# Altium integrated library Capacitors - Aluminum - Electrolytic SMT.IntLib: 1988 symbols (part 23 of 50)
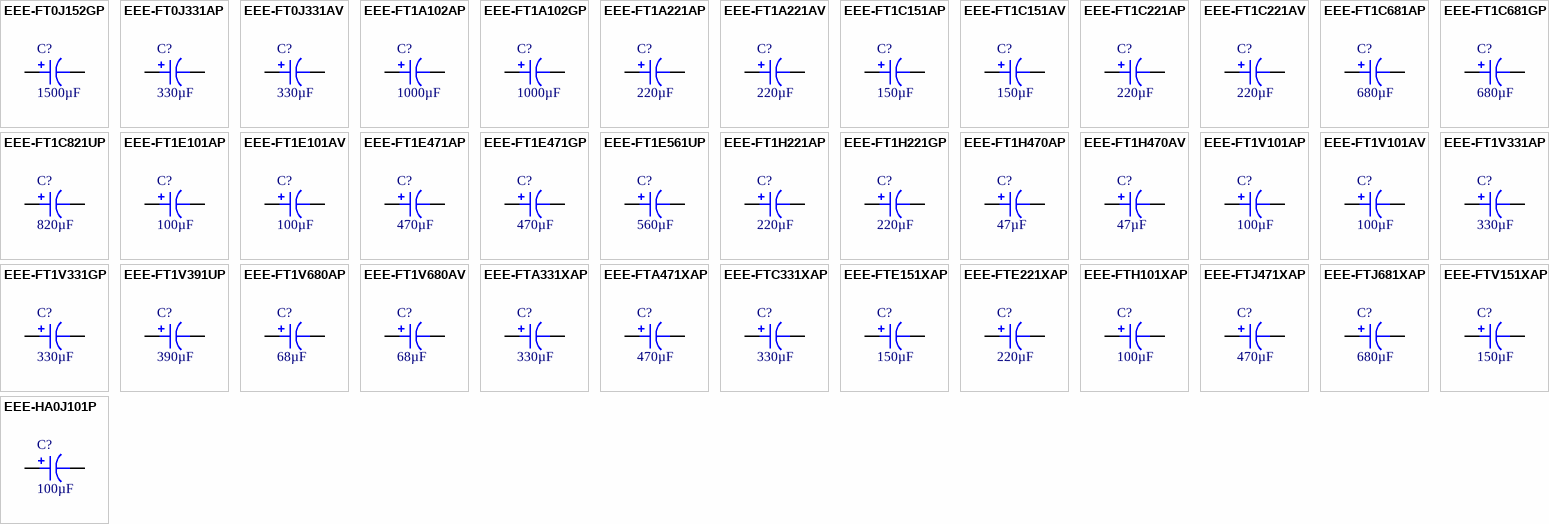
[diagram p70: symbols EEE-FT0J152GP to EEE-HA0J101P]

## EEE-FTJ471XAP
designator C?, comment 470µF
CAP ALUM 470UF 20% 6.3V SMD; Part Number: EEE-FTJ471XAP; Manufacturer: Panasonic Electronic Components; ESR (Equivalent Series Resistance): 160 mohm @ 100kHz; Lifetime @ Temp.: 2000 Hrs @ 105°C; Polarization: Polar; Ripple Current @ High Frequency: 600mA @ 100kHz; Ripple Current @ Low Frequency: 390mA @ 120Hz; Surface Mount Land Size: 0.260" L x 0.260" W (6.60mm x 6.60mm); Applications: Automotive; Capacitance: 470µF; ComponentLink1Description: Datasheet; ComponentLink1URL: https://na.industrial.panasonic.com/file-download/3112; ComponentLink2Description: DigiKey Link; ComponentLink2URL: http://digikey.com/product-detail/en/panasonic-electronic-components/EEE-FTJ471XAP/P15096CT-ND/2796920; Device Package: Radial, Can - SMD; Height - Seated (Max): 0.315" (8.00mm); LastUpdated: 9/2/2020 1:25:38 AM; Lifecycle Status: Active; Minimum Order: 1; Mounting Type: Surface Mount; Operating Temperature: -55°C ~ 105°C; Package / Case: Radial, Can - SMD; Packaging: TapeAndReel; PartId: 8439; Part Status: Active; Price: 0.24; Ratings: AEC-Q200; Series: FT; Size / Dimension: 0.248" Dia (6.30mm); Supplier 1: DigiKey; Supplier Part Number 1: P15096CT-ND; Tolerance: ±20%; Value: 470µF; Voltage - Rated: 6.3V
footprint CAP ALSMD 6.6MM H8.0MM
pins: 1, 2

## EEE-FTJ681XAP
designator C?, comment 680µF
CAP ALUM 680UF 20% 6.3V SMD; Part Number: EEE-FTJ681XAP; Manufacturer: Panasonic Electronic Components; ESR (Equivalent Series Resistance): 160 mohm @ 100kHz; Lifetime @ Temp.: 2000 Hrs @ 105°C; Polarization: Polar; Ripple Current @ High Frequency: 600mA @ 100kHz; Ripple Current @ Low Frequency: 420mA @ 120Hz; Surface Mount Land Size: 0.260" L x 0.260" W (6.60mm x 6.60mm); Applications: Automotive; Capacitance: 680µF; ComponentLink1Description: Datasheet; ComponentLink1URL: https://na.industrial.panasonic.com/file-download/3112; ComponentLink2Description: DigiKey Link; ComponentLink2URL: http://digikey.com/product-detail/en/panasonic-electronic-components/EEE-FTJ681XAP/P15097CT-ND/2796925; Device Package: Radial, Can - SMD; Height - Seated (Max): 0.315" (8.00mm); LastUpdated: 9/2/2020 1:25:38 AM; Lifecycle Status: Active; Minimum Order: 1; Mounting Type: Surface Mount; Operating Temperature: -55°C ~ 105°C; Package / Case: Radial, Can - SMD; Packaging: TapeAndReel; PartId: 8438; Part Status: Active; Price: 0.24; Ratings: AEC-Q200; Series: FT; Size / Dimension: 0.248" Dia (6.30mm); Supplier 1: DigiKey; Supplier Part Number 1: P15097CT-ND; Tolerance: ±20%; Value: 680µF; Voltage - Rated: 6.3V
footprint CAP ALSMD 6.6MM H8.0MM
pins: 1, 2

## EEE-FTV151XAP
designator C?, comment 150µF
CAP ALUM 150UF 20% 35V SMD; Part Number: EEE-FTV151XAP; Manufacturer: Panasonic Electronic Components; ESR (Equivalent Series Resistance): 160 mohm @ 100kHz; Lifetime @ Temp.: 2000 Hrs @ 105°C; Polarization: Polar; Ripple Current @ High Frequency: 600mA @ 100kHz; Ripple Current @ Low Frequency: 390mA @ 120Hz; Surface Mount Land Size: 0.260" L x 0.260" W (6.60mm x 6.60mm); Applications: Automotive; Capacitance: 150µF; ComponentLink1Description: Datasheet; ComponentLink1URL: https://na.industrial.panasonic.com/file-download/3112; ComponentLink2Description: DigiKey Link; ComponentLink2URL: http://digikey.com/product-detail/en/panasonic-electronic-components/EEE-FTV151XAP/PCE5017CT-ND/2652072; Device Package: Radial, Can - SMD; Height - Seated (Max): 0.315" (8.00mm); LastUpdated: 9/2/2020 1:25:38 AM; Lifecycle Status: Active; Minimum Order: 1; Mounting Type: Surface Mount; Operating Temperature: -55°C ~ 105°C; Package / Case: Radial, Can - SMD; Packaging: TapeAndReel; PartId: 8375; Part Status: Active; Price: 0.24; Ratings: AEC-Q200; Series: FT; Size / Dimension: 0.248" Dia (6.30mm); Supplier 1: DigiKey; Supplier Part Number 1: PCE5017CT-ND; Tolerance: ±20%; Value: 150µF; Voltage - Rated: 35V
footprint CAP ALSMD 6.6MM H8.0MM
pins: 1, 2

## EEE-HA0J101P
designator C?, comment 100µF
CAP ALUM 100UF 20% 6.3V SMD; Part Number: EEE-HA0J101P; Manufacturer: Panasonic Electronic Components; Lifetime @ Temp.: 1000 Hrs @ 105°C; Polarization: Polar; Ripple Current @ High Frequency: 120.7mA @ 10kHz; Ripple Current @ Low Frequency: 71mA @ 120Hz; Surface Mount Land Size: 0.260" L x 0.260" W (6.60mm x 6.60mm); Applications: Automotive; Capacitance: 100µF; ComponentLink1Description: Datasheet; ComponentLink1URL: https://industrial.panasonic.com/cdbs/www-data/pdf/RDE0000/ABA0000C1151.pdf; ComponentLink2Description: DigiKey Link; ComponentLink2URL: http://digikey.com/product-detail/en/panasonic-electronic-components/EEE-HA0J101P/PCE4155CT-ND/814228; Device Package: Radial, Can - SMD; Height - Seated (Max): 0.213" (5.40mm); LastUpdated: 9/2/2020 1:18:33 AM; Lifecycle Status: Active; Minimum Order: 1; Mounting Type: Surface Mount; Operating Temperature: -40°C ~ 105°C; Package / Case: Radial, Can - SMD; Packaging: TapeAndReel; PartId: 8764; Part Status: Active; Price: 0.09; Ratings: AEC-Q200; Series: HA; Size / Dimension: 0.248" Dia (6.30mm); Supplier 1: DigiKey; Supplier Part Number 1: PCE4155CT-ND; Tolerance: ±20%; Value: 100µF; Voltage - Rated: 6.3V
footprint CAP ALSMD 6.6MM H5.4MM
pins: 1, 2

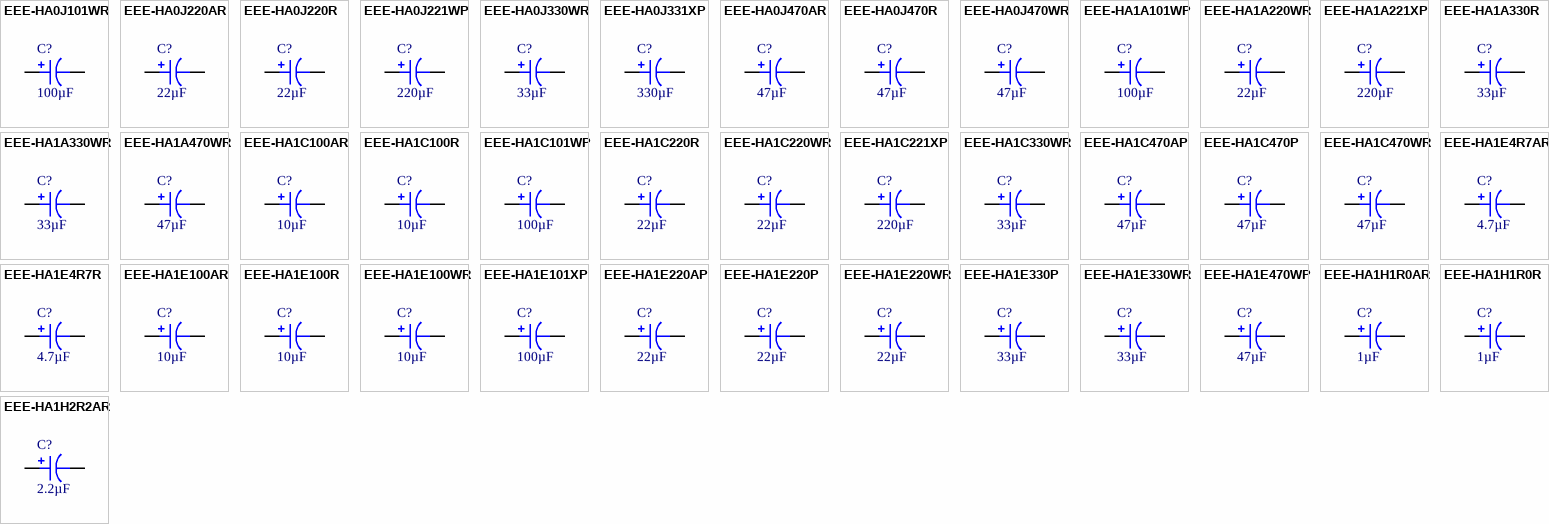
[diagram p22: symbols EEE-HA0J101WR to EEE-HA1H2R2AR]

## EEE-HA0J101WR
designator C?, comment 100µF
CAP ALUM 100UF 20% 6.3V SMD; Part Number: EEE-HA0J101WR; Manufacturer: Panasonic Electronic Components; Lifetime @ Temp.: 1000 Hrs @ 105°C; Polarization: Polar; Ripple Current @ High Frequency: 79.9mA @ 10kHz; Ripple Current @ Low Frequency: 47mA @ 120Hz; Surface Mount Land Size: 0.209" L x 0.209" W (5.30mm x 5.30mm); Applications: Automotive; Capacitance: 100µF; ComponentLink1Description: Datasheet; ComponentLink1URL: https://industrial.panasonic.com/cdbs/www-data/pdf/RDE0000/ABA0000C1151.pdf; ComponentLink2Description: DigiKey Link; ComponentLink2URL: http://digikey.com/product-detail/en/panasonic-electronic-components/EEE-HA0J101WR/PCE4156CT-ND/814229; Device Package: Radial, Can - SMD; Height - Seated (Max): 0.213" (5.40mm); LastUpdated: 9/2/2020 1:25:23 AM; Lifecycle Status: Active; Minimum Order: 1; Mounting Type: Surface Mount; Operating Temperature: -40°C ~ 105°C; Package / Case: Radial, Can - SMD; Packaging: TapeAndReel; PartId: 7976; Part Status: Active; Price: 0.08; Ratings: AEC-Q200; Series: HA; Size / Dimension: 0.197" Dia (5.00mm); Supplier 1: DigiKey; Supplier Part Number 1: PCE4156CT-ND; Tolerance: ±20%; Value: 100µF; Voltage - Rated: 6.3V
footprint CAP ALSMD 5.3MM H5.4MM
pins: 1, 2

## EEE-HA0J220AR
designator C?, comment 22µF
CAP ALUM 22UF 20% 6.3V SMD; Part Number: EEE-HA0J220AR; Manufacturer: Panasonic Electronic Components; Lifetime @ Temp.: 1000 Hrs @ 105°C; Polarization: Polar; Ripple Current @ High Frequency: 49.3mA @ 10kHz; Ripple Current @ Low Frequency: 29mA @ 120Hz; Surface Mount Land Size: 0.169" L x 0.169" W (4.30mm x 4.30mm); Applications: Automotive; Capacitance: 22µF; ComponentLink1Description: Datasheet; ComponentLink1URL: https://industrial.panasonic.com/cdbs/www-data/pdf/RDE0000/ABA0000C1148.pdf; ComponentLink2Description: DigiKey Link; ComponentLink2URL: http://digikey.com/product-detail/en/panasonic-electronic-components/EEE-HA0J220AR/PCE4647CT-ND/1718070; Device Package: Radial, Can - SMD; Height - Seated (Max): 0.213" (5.40mm); LastUpdated: 9/2/2020 1:23:43 AM; Lifecycle Status: Active; Minimum Order: 1; Mounting Type: Surface Mount; Operating Temperature: -40°C ~ 105°C; Package / Case: Radial, Can - SMD; Packaging: TapeAndReel; PartId: 7163; Part Status: Active; Price: 0.08; Ratings: AEC-Q200; Series: HA; Size / Dimension: 0.157" Dia (4.00mm); Supplier 1: DigiKey; Supplier Part Number 1: PCE4647CT-ND; Tolerance: ±20%; Value: 22µF; Voltage - Rated: 6.3V
footprint CAP ALSMD POLY 4.3MM H5.5MM
pins: 1, 2

## EEE-HA0J220R
designator C?, comment 22µF
CAP ALUM 22UF 20% 6.3V SMD; Part Number: EEE-HA0J220R; Manufacturer: Panasonic Electronic Components; Lifetime @ Temp.: 1000 Hrs @ 105°C; Polarization: Polar; Ripple Current @ High Frequency: 49.3mA @ 10kHz; Ripple Current @ Low Frequency: 29mA @ 120Hz; Surface Mount Land Size: 0.169" L x 0.169" W (4.30mm x 4.30mm); Applications: Automotive; Capacitance: 22µF; ComponentLink1Description: Datasheet; ComponentLink1URL: https://industrial.panasonic.com/cdbs/www-data/pdf/RDE0000/ABA0000C1151.pdf; ComponentLink2Description: DigiKey Link; ComponentLink2URL: http://digikey.com/product-detail/en/panasonic-electronic-components/EEE-HA0J220R/PCE4160CT-ND/814233; Device Package: Radial, Can - SMD; Height - Seated (Max): 0.213" (5.40mm); LastUpdated: 9/2/2020 1:23:43 AM; Lifecycle Status: Active; Minimum Order: 1; Mounting Type: Surface Mount; Operating Temperature: -40°C ~ 105°C; Package / Case: Radial, Can - SMD; Packaging: TapeAndReel; PartId: 7150; Part Status: Active; Price: 0.07; Ratings: AEC-Q200; Series: HA; Size / Dimension: 0.157" Dia (4.00mm); Supplier 1: DigiKey; Supplier Part Number 1: PCE4160CT-ND; Tolerance: ±20%; Value: 22µF; Voltage - Rated: 6.3V
footprint CAP ALSMD POLY 4.3MM H5.5MM
pins: 1, 2

## EEE-HA0J221WP
designator C?, comment 220µF
CAP ALUM 220UF 20% 6.3V SMD; Part Number: EEE-HA0J221WP; Manufacturer: Panasonic Electronic Components; Lifetime @ Temp.: 1000 Hrs @ 105°C; Polarization: Polar; Ripple Current @ High Frequency: 125.8mA @ 10kHz; Ripple Current @ Low Frequency: 74mA @ 120Hz; Surface Mount Land Size: 0.260" L x 0.260" W (6.60mm x 6.60mm); Applications: Automotive; Capacitance: 220µF; ComponentLink1Description: Datasheet; ComponentLink1URL: https://industrial.panasonic.com/cdbs/www-data/pdf/RDE0000/ABA0000C1151.pdf; ComponentLink2Description: DigiKey Link; ComponentLink2URL: http://digikey.com/product-detail/en/panasonic-electronic-components/EEE-HA0J221WP/PCE4161CT-ND/814234; Device Package: Radial, Can - SMD; Height - Seated (Max): 0.213" (5.40mm); LastUpdated: 9/2/2020 1:18:32 AM; Lifecycle Status: Active; Minimum Order: 1; Mounting Type: Surface Mount; Operating Temperature: -40°C ~ 105°C; Package / Case: Radial, Can - SMD; Packaging: TapeAndReel; PartId: 8671; Part Status: Active; Price: 0.09; Ratings: AEC-Q200; Series: HA; Size / Dimension: 0.248" Dia (6.30mm); Supplier 1: DigiKey; Supplier Part Number 1: PCE4161CT-ND; Tolerance: ±20%; Value: 220µF; Voltage - Rated: 6.3V
footprint CAP ALSMD 6.6MM H5.4MM
pins: 1, 2

## EEE-HA0J330WR
designator C?, comment 33µF
CAP ALUM 33UF 20% 6.3V SMD; Part Number: EEE-HA0J330WR; Manufacturer: Panasonic Electronic Components; Lifetime @ Temp.: 1000 Hrs @ 105°C; Polarization: Polar; Ripple Current @ High Frequency: 49.3mA @ 10kHz; Ripple Current @ Low Frequency: 29mA @ 120Hz; Surface Mount Land Size: 0.169" L x 0.169" W (4.30mm x 4.30mm); Applications: Automotive; Capacitance: 33µF; ComponentLink1Description: Datasheet; ComponentLink1URL: https://industrial.panasonic.com/cdbs/www-data/pdf/RDE0000/ABA0000C1151.pdf; ComponentLink2Description: DigiKey Link; ComponentLink2URL: http://digikey.com/product-detail/en/panasonic-electronic-components/EEE-HA0J330WR/PCE4162CT-ND/814235; Device Package: Radial, Can - SMD; Height - Seated (Max): 0.213" (5.40mm); LastUpdated: 9/2/2020 1:23:46 AM; Lifecycle Status: Active; Minimum Order: 1; Mounting Type: Surface Mount; Operating Temperature: -40°C ~ 105°C; Package / Case: Radial, Can - SMD; Packaging: TapeAndReel; PartId: 7061; Part Status: Active; Price: 0.08; Ratings: AEC-Q200; Series: HA; Size / Dimension: 0.157" Dia (4.00mm); Supplier 1: DigiKey; Supplier Part Number 1: PCE4162CT-ND; Tolerance: ±20%; Value: 33µF; Voltage - Rated: 6.3V
footprint CAP ALSMD POLY 4.3MM H5.5MM
pins: 1, 2

## EEE-HA0J331XP
designator C?, comment 330µF
CAP ALUM 330UF 20% 6.3V SMD; Part Number: EEE-HA0J331XP; Manufacturer: Panasonic Electronic Components; Lifetime @ Temp.: 1000 Hrs @ 105°C; Polarization: Polar; Ripple Current @ High Frequency: 178.5mA @ 10kHz; Ripple Current @ Low Frequency: 105mA @ 120Hz; Surface Mount Land Size: 0.260" L x 0.260" W (6.60mm x 6.60mm); Applications: Automotive; Capacitance: 330µF; ComponentLink1Description: Datasheet; ComponentLink1URL: https://industrial.panasonic.com/cdbs/www-data/pdf/RDE0000/ABA0000C1151.pdf; ComponentLink2Description: DigiKey Link; ComponentLink2URL: http://digikey.com/product-detail/en/panasonic-electronic-components/EEE-HA0J331XP/PCE4164CT-ND/814237; Device Package: Radial, Can - SMD; Height - Seated (Max): 0.303" (7.70mm); LastUpdated: 9/2/2020 1:25:34 AM; Lifecycle Status: Active; Minimum Order: 1; Mounting Type: Surface Mount; Operating Temperature: -40°C ~ 105°C; Package / Case: Radial, Can - SMD; Packaging: TapeAndReel; PartId: 8258; Part Status: Active; Price: 0.13; Ratings: AEC-Q200; Series: HA; Size / Dimension: 0.248" Dia (6.30mm); Supplier 1: DigiKey; Supplier Part Number 1: PCE4164CT-ND; Tolerance: ±20%; Value: 330µF; Voltage - Rated: 6.3V
footprint CAP ALSMD 6.6MM H7.7MM
pins: 1, 2

## EEE-HA0J470AR
designator C?, comment 47µF
CAP ALUM 47UF 20% 6.3V SMD; Part Number: EEE-HA0J470AR; Manufacturer: Panasonic Electronic Components; Lifetime @ Temp.: 1000 Hrs @ 105°C; Polarization: Polar; Ripple Current @ High Frequency: 78.2mA @ 10kHz; Ripple Current @ Low Frequency: 46mA @ 120Hz; Surface Mount Land Size: 0.209" L x 0.209" W (5.30mm x 5.30mm); Applications: Automotive; Capacitance: 47µF; ComponentLink1Description: Datasheet; ComponentLink1URL: https://industrial.panasonic.com/cdbs/www-data/pdf/RDE0000/ABA0000C1148.pdf; ComponentLink2Description: DigiKey Link; ComponentLink2URL: http://digikey.com/product-detail/en/panasonic-electronic-components/EEE-HA0J470AR/PCE4649CT-ND/1718072; Device Package: Radial, Can - SMD; Height - Seated (Max): 0.213" (5.40mm); LastUpdated: 9/2/2020 1:25:22 AM; Lifecycle Status: Active; Minimum Order: 1; Mounting Type: Surface Mount; Operating Temperature: -40°C ~ 105°C; Package / Case: Radial, Can - SMD; Packaging: TapeAndReel; PartId: 8000; Part Status: Active; Price: 0.09; Ratings: AEC-Q200; Series: HA; Size / Dimension: 0.197" Dia (5.00mm); Supplier 1: DigiKey; Supplier Part Number 1: PCE4649CT-ND; Tolerance: ±20%; Value: 47µF; Voltage - Rated: 6.3V
footprint CAP ALSMD 5.3MM H5.4MM
pins: 1, 2

## EEE-HA0J470R
designator C?, comment 47µF
CAP ALUM 47UF 20% 6.3V SMD; Part Number: EEE-HA0J470R; Manufacturer: Panasonic Electronic Components; Lifetime @ Temp.: 1000 Hrs @ 105°C; Polarization: Polar; Ripple Current @ High Frequency: 78.2mA @ 10kHz; Ripple Current @ Low Frequency: 46mA @ 120Hz; Surface Mount Land Size: 0.209" L x 0.209" W (5.30mm x 5.30mm); Applications: Automotive; Capacitance: 47µF; ComponentLink1Description: Datasheet; ComponentLink1URL: https://industrial.panasonic.com/cdbs/www-data/pdf/RDE0000/ABA0000C1151.pdf; ComponentLink2Description: DigiKey Link; ComponentLink2URL: http://digikey.com/product-detail/en/panasonic-electronic-components/EEE-HA0J470R/PCE4165CT-ND/814238; Device Package: Radial, Can - SMD; Height - Seated (Max): 0.213" (5.40mm); LastUpdated: 9/2/2020 1:25:22 AM; Lifecycle Status: Active; Minimum Order: 1; Mounting Type: Surface Mount; Operating Temperature: -40°C ~ 105°C; Package / Case: Radial, Can - SMD; Packaging: TapeAndReel; PartId: 8012; Part Status: Active; Price: 0.08; Ratings: AEC-Q200; Series: HA; Size / Dimension: 0.197" Dia (5.00mm); Supplier 1: DigiKey; Supplier Part Number 1: PCE4165CT-ND; Tolerance: ±20%; Value: 47µF; Voltage - Rated: 6.3V
footprint CAP ALSMD 5.3MM H5.4MM
pins: 1, 2

## EEE-HA0J470WR
designator C?, comment 47µF
CAP ALUM 47UF 20% 6.3V SMD; Part Number: EEE-HA0J470WR; Manufacturer: Panasonic Electronic Components; Lifetime @ Temp.: 1000 Hrs @ 105°C; Polarization: Polar; Ripple Current @ High Frequency: 61.2mA @ 10kHz; Ripple Current @ Low Frequency: 36mA @ 120Hz; Surface Mount Land Size: 0.169" L x 0.169" W (4.30mm x 4.30mm); Applications: Automotive; Capacitance: 47µF; ComponentLink1Description: Datasheet; ComponentLink1URL: https://industrial.panasonic.com/cdbs/www-data/pdf/RDE0000/ABA0000C1151.pdf; ComponentLink2Description: DigiKey Link; ComponentLink2URL: http://digikey.com/product-detail/en/panasonic-electronic-components/EEE-HA0J470WR/PCE4166CT-ND/814239; Device Package: Radial, Can - SMD; Height - Seated (Max): 0.213" (5.40mm); LastUpdated: 9/2/2020 1:23:44 AM; Lifecycle Status: Active; Minimum Order: 1; Mounting Type: Surface Mount; Operating Temperature: -40°C ~ 105°C; Package / Case: Radial, Can - SMD; Packaging: TapeAndReel; PartId: 7119; Part Status: Active; Price: 0.08; Ratings: AEC-Q200; Series: HA; Size / Dimension: 0.157" Dia (4.00mm); Supplier 1: DigiKey; Supplier Part Number 1: PCE4166CT-ND; Tolerance: ±20%; Value: 47µF; Voltage - Rated: 6.3V
footprint CAP ALSMD POLY 4.3MM H5.5MM
pins: 1, 2

## EEE-HA1A101WP
designator C?, comment 100µF
CAP ALUM 100UF 20% 10V SMD; Part Number: EEE-HA1A101WP; Manufacturer: Panasonic Electronic Components; Lifetime @ Temp.: 1000 Hrs @ 105°C; Polarization: Polar; Ripple Current @ High Frequency: 120.7mA @ 10kHz; Ripple Current @ Low Frequency: 71mA @ 120Hz; Surface Mount Land Size: 0.260" L x 0.260" W (6.60mm x 6.60mm); Applications: Automotive; Capacitance: 100µF; ComponentLink1Description: Datasheet; ComponentLink1URL: https://industrial.panasonic.com/cdbs/www-data/pdf/RDE0000/ABA0000C1151.pdf; ComponentLink2Description: DigiKey Link; ComponentLink2URL: http://digikey.com/product-detail/en/panasonic-electronic-components/EEE-HA1A101WP/PCE4169CT-ND/814242; Device Package: Radial, Can - SMD; Height - Seated (Max): 0.213" (5.40mm); LastUpdated: 9/2/2020 1:18:32 AM; Lifecycle Status: Active; Minimum Order: 1; Mounting Type: Surface Mount; Operating Temperature: -40°C ~ 105°C; Package / Case: Radial, Can - SMD; Packaging: TapeAndReel; PartId: 8674; Part Status: Active; Price: 0.09; Ratings: AEC-Q200; Series: HA; Size / Dimension: 0.248" Dia (6.30mm); Supplier 1: DigiKey; Supplier Part Number 1: PCE4169CT-ND; Tolerance: ±20%; Value: 100µF; Voltage - Rated: 10V
footprint CAP ALSMD 6.6MM H5.4MM
pins: 1, 2

## EEE-HA1A220WR
designator C?, comment 22µF
CAP ALUM 22UF 20% 10V SMD; Part Number: EEE-HA1A220WR; Manufacturer: Panasonic Electronic Components; Lifetime @ Temp.: 1000 Hrs @ 105°C; Polarization: Polar; Ripple Current @ High Frequency: 47.6mA @ 10kHz; Ripple Current @ Low Frequency: 28mA @ 120Hz; Surface Mount Land Size: 0.169" L x 0.169" W (4.30mm x 4.30mm); Applications: Automotive; Capacitance: 22µF; ComponentLink1Description: Datasheet; ComponentLink1URL: https://industrial.panasonic.com/cdbs/www-data/pdf/RDE0000/ABA0000C1151.pdf; ComponentLink2Description: DigiKey Link; ComponentLink2URL: http://digikey.com/product-detail/en/panasonic-electronic-components/EEE-HA1A220WR/PCE4171CT-ND/814244; Device Package: Radial, Can - SMD; Height - Seated (Max): 0.213" (5.40mm); LastUpdated: 9/2/2020 1:23:43 AM; Lifecycle Status: Active; Minimum Order: 1; Mounting Type: Surface Mount; Operating Temperature: -40°C ~ 105°C; Package / Case: Radial, Can - SMD; Packaging: TapeAndReel; PartId: 7151; Part Status: Active; Price: 0.07; Ratings: AEC-Q200; Series: HA; Size / Dimension: 0.157" Dia (4.00mm); Supplier 1: DigiKey; Supplier Part Number 1: PCE4171CT-ND; Tolerance: ±20%; Value: 22µF; Voltage - Rated: 10V
footprint CAP ALSMD POLY 4.3MM H5.5MM
pins: 1, 2

## EEE-HA1A221XP
designator C?, comment 220µF
CAP ALUM 220UF 20% 10V SMD; Part Number: EEE-HA1A221XP; Manufacturer: Panasonic Electronic Components; Lifetime @ Temp.: 1000 Hrs @ 105°C; Polarization: Polar; Ripple Current @ High Frequency: 204mA @ 10kHz; Ripple Current @ Low Frequency: 105mA @ 120Hz; Surface Mount Land Size: 0.260" L x 0.260" W (6.60mm x 6.60mm); Applications: Automotive; Capacitance: 220µF; ComponentLink1Description: Datasheet; ComponentLink1URL: https://industrial.panasonic.com/cdbs/www-data/pdf/RDE0000/ABA0000C1151.pdf; ComponentLink2Description: DigiKey Link; ComponentLink2URL: http://digikey.com/product-detail/en/panasonic-electronic-components/EEE-HA1A221XP/PCE4173CT-ND/814246; Device Package: Radial, Can - SMD; Height - Seated (Max): 0.303" (7.70mm); LastUpdated: 9/2/2020 1:25:34 AM; Lifecycle Status: Active; Minimum Order: 1; Mounting Type: Surface Mount; Operating Temperature: -40°C ~ 105°C; Package / Case: Radial, Can - SMD; Packaging: TapeAndReel; PartId: 8313; Part Status: Active; Price: 0.13; Ratings: AEC-Q200; Series: HA; Size / Dimension: 0.248" Dia (6.30mm); Supplier 1: DigiKey; Supplier Part Number 1: PCE4173CT-ND; Tolerance: ±20%; Value: 220µF; Voltage - Rated: 10V
footprint CAP ALSMD 6.6MM H7.7MM
pins: 1, 2

## EEE-HA1A330R
designator C?, comment 33µF
CAP ALUM 33UF 20% 10V SMD; Part Number: EEE-HA1A330R; Manufacturer: Panasonic Electronic Components; Lifetime @ Temp.: 1000 Hrs @ 105°C; Polarization: Polar; Ripple Current @ High Frequency: 73.1mA @ 10kHz; Ripple Current @ Low Frequency: 43mA @ 120Hz; Surface Mount Land Size: 0.209" L x 0.209" W (5.30mm x 5.30mm); Applications: Automotive; Capacitance: 33µF; ComponentLink1Description: Datasheet; ComponentLink1URL: https://industrial.panasonic.com/cdbs/www-data/pdf/RDE0000/ABA0000C1151.pdf; ComponentLink2Description: DigiKey Link; ComponentLink2URL: http://digikey.com/product-detail/en/panasonic-electronic-components/EEE-HA1A330R/PCE4174CT-ND/814247; Device Package: Radial, Can - SMD; Height - Seated (Max): 0.213" (5.40mm); LastUpdated: 9/2/2020 1:25:22 AM; Lifecycle Status: Active; Minimum Order: 1; Mounting Type: Surface Mount; Operating Temperature: -40°C ~ 105°C; Package / Case: Radial, Can - SMD; Packaging: TapeAndReel; PartId: 8015; Part Status: Active; Price: 0.08; Ratings: AEC-Q200; Series: HA; Size / Dimension: 0.197" Dia (5.00mm); Supplier 1: DigiKey; Supplier Part Number 1: PCE4174CT-ND; Tolerance: ±20%; Value: 33µF; Voltage - Rated: 10V
footprint CAP ALSMD 5.3MM H5.4MM
pins: 1, 2

## EEE-HA1A330WR
designator C?, comment 33µF
CAP ALUM 33UF 20% 10V SMD; Part Number: EEE-HA1A330WR; Manufacturer: Panasonic Electronic Components; Lifetime @ Temp.: 1000 Hrs @ 105°C; Polarization: Polar; Ripple Current @ High Frequency: 49.3mA @ 10kHz; Ripple Current @ Low Frequency: 29mA @ 120Hz; Surface Mount Land Size: 0.169" L x 0.169" W (4.30mm x 4.30mm); Applications: Automotive; Capacitance: 33µF; ComponentLink1Description: Datasheet; ComponentLink1URL: https://industrial.panasonic.com/cdbs/www-data/pdf/RDE0000/ABA0000C1151.pdf; ComponentLink2Description: DigiKey Link; ComponentLink2URL: http://digikey.com/product-detail/en/panasonic-electronic-components/EEE-HA1A330WR/PCE4175CT-ND/814248; Device Package: Radial, Can - SMD; Height - Seated (Max): 0.213" (5.40mm); LastUpdated: 9/2/2020 1:23:46 AM; Lifecycle Status: Active; Minimum Order: 1; Mounting Type: Surface Mount; Operating Temperature: -40°C ~ 105°C; Package / Case: Radial, Can - SMD; Packaging: TapeAndReel; PartId: 7060; Part Status: Active; Price: 0.08; Ratings: AEC-Q200; Series: HA; Size / Dimension: 0.157" Dia (4.00mm); Supplier 1: DigiKey; Supplier Part Number 1: PCE4175CT-ND; Tolerance: ±20%; Value: 33µF; Voltage - Rated: 10V
footprint CAP ALSMD POLY 4.3MM H5.5MM
pins: 1, 2

## EEE-HA1A470WR
designator C?, comment 47µF
CAP ALUM 47UF 20% 10V SMD; Part Number: EEE-HA1A470WR; Manufacturer: Panasonic Electronic Components; Lifetime @ Temp.: 1000 Hrs @ 105°C; Polarization: Polar; Ripple Current @ High Frequency: 73.1mA @ 10kHz; Ripple Current @ Low Frequency: 43mA @ 120Hz; Surface Mount Land Size: 0.209" L x 0.209" W (5.30mm x 5.30mm); Applications: Automotive; Capacitance: 47µF; ComponentLink1Description: Datasheet; ComponentLink1URL: https://industrial.panasonic.com/cdbs/www-data/pdf/RDE0000/ABA0000C1151.pdf; ComponentLink2Description: DigiKey Link; ComponentLink2URL: http://digikey.com/product-detail/en/panasonic-electronic-components/EEE-HA1A470WR/PCE4176CT-ND/814249; Device Package: Radial, Can - SMD; Height - Seated (Max): 0.213" (5.40mm); LastUpdated: 9/2/2020 1:25:24 AM; Lifecycle Status: Active; Minimum Order: 1; Mounting Type: Surface Mount; Operating Temperature: -40°C ~ 105°C; Package / Case: Radial, Can - SMD; Packaging: TapeAndReel; PartId: 7850; Part Status: Active; Price: 0.08; Ratings: AEC-Q200; Series: HA; Size / Dimension: 0.197" Dia (5.00mm); Supplier 1: DigiKey; Supplier Part Number 1: PCE4176CT-ND; Tolerance: ±20%; Value: 47µF; Voltage - Rated: 10V
footprint CAP ALSMD 5.3MM H5.4MM
pins: 1, 2

## EEE-HA1C100AR
designator C?, comment 10µF
CAP ALUM 10UF 20% 16V SMD; Part Number: EEE-HA1C100AR; Manufacturer: Panasonic Electronic Components; Lifetime @ Temp.: 1000 Hrs @ 105°C; Polarization: Polar; Ripple Current @ High Frequency: 47.6mA @ 10kHz; Ripple Current @ Low Frequency: 28mA @ 120Hz; Surface Mount Land Size: 0.169" L x 0.169" W (4.30mm x 4.30mm); Applications: Automotive; Capacitance: 10µF; ComponentLink1Description: Datasheet; ComponentLink1URL: https://industrial.panasonic.com/cdbs/www-data/pdf/RDE0000/ABA0000C1148.pdf; ComponentLink2Description: DigiKey Link; ComponentLink2URL: http://digikey.com/product-detail/en/panasonic-electronic-components/EEE-HA1C100AR/PCE4654CT-ND/1718077; Device Package: Radial, Can - SMD; Height - Seated (Max): 0.213" (5.40mm); LastUpdated: 9/2/2020 1:23:46 AM; Lifecycle Status: Active; Minimum Order: 1; Mounting Type: Surface Mount; Operating Temperature: -40°C ~ 105°C; Package / Case: Radial, Can - SMD; Packaging: TapeAndReel; PartId: 7054; Part Status: Active; Price: 0.08; Ratings: AEC-Q200; Series: HA; Size / Dimension: 0.157" Dia (4.00mm); Supplier 1: DigiKey; Supplier Part Number 1: PCE4654CT-ND; Tolerance: ±20%; Value: 10µF; Voltage - Rated: 16V
footprint CAP ALSMD POLY 4.3MM H5.5MM
pins: 1, 2

## EEE-HA1C100R
designator C?, comment 10µF
CAP ALUM 10UF 20% 16V SMD; Part Number: EEE-HA1C100R; Manufacturer: Panasonic Electronic Components; Lifetime @ Temp.: 1000 Hrs @ 105°C; Polarization: Polar; Ripple Current @ High Frequency: 47.6mA @ 10kHz; Ripple Current @ Low Frequency: 28mA @ 120Hz; Surface Mount Land Size: 0.169" L x 0.169" W (4.30mm x 4.30mm); Applications: Automotive; Capacitance: 10µF; ComponentLink1Description: Datasheet; ComponentLink1URL: https://industrial.panasonic.com/cdbs/www-data/pdf/RDE0000/ABA0000C1151.pdf; ComponentLink2Description: DigiKey Link; ComponentLink2URL: http://digikey.com/product-detail/en/panasonic-electronic-components/EEE-HA1C100R/PCE4179CT-ND/814252; Device Package: Radial, Can - SMD; Height - Seated (Max): 0.213" (5.40mm); LastUpdated: 9/2/2020 1:23:44 AM; Lifecycle Status: Active; Minimum Order: 1; Mounting Type: Surface Mount; Operating Temperature: -40°C ~ 105°C; Package / Case: Radial, Can - SMD; Packaging: TapeAndReel; PartId: 7139; Part Status: Active; Price: 0.06; Ratings: AEC-Q200; Series: HA; Size / Dimension: 0.157" Dia (4.00mm); Supplier 1: DigiKey; Supplier Part Number 1: PCE4179CT-ND; Tolerance: ±20%; Value: 10µF; Voltage - Rated: 16V
footprint CAP ALSMD POLY 4.3MM H5.5MM
pins: 1, 2

## EEE-HA1C101WP
designator C?, comment 100µF
CAP ALUM 100UF 20% 16V SMD; Part Number: EEE-HA1C101WP; Manufacturer: Panasonic Electronic Components; Lifetime @ Temp.: 1000 Hrs @ 105°C; Polarization: Polar; Ripple Current @ High Frequency: 119mA @ 10kHz; Ripple Current @ Low Frequency: 70mA @ 120Hz; Surface Mount Land Size: 0.260" L x 0.260" W (6.60mm x 6.60mm); Applications: Automotive; Capacitance: 100µF; ComponentLink1Description: Datasheet; ComponentLink1URL: https://industrial.panasonic.com/cdbs/www-data/pdf/RDE0000/ABA0000C1151.pdf; ComponentLink2Description: DigiKey Link; ComponentLink2URL: http://digikey.com/product-detail/en/panasonic-electronic-components/EEE-HA1C101WP/PCE4180CT-ND/814253; Device Package: Radial, Can - SMD; Height - Seated (Max): 0.213" (5.40mm); LastUpdated: 9/2/2020 1:18:33 AM; Lifecycle Status: Active; Minimum Order: 1; Mounting Type: Surface Mount; Operating Temperature: -40°C ~ 105°C; Package / Case: Radial, Can - SMD; Packaging: TapeAndReel; PartId: 8801; Part Status: Active; Price: 0.09; Ratings: AEC-Q200; Series: HA; Size / Dimension: 0.248" Dia (6.30mm); Supplier 1: DigiKey; Supplier Part Number 1: PCE4180CT-ND; Tolerance: ±20%; Value: 100µF; Voltage - Rated: 16V
footprint CAP ALSMD 6.6MM H5.4MM
pins: 1, 2

## EEE-HA1C220R
designator C?, comment 22µF
CAP ALUM 22UF 20% 16V SMD; Part Number: EEE-HA1C220R; Manufacturer: Panasonic Electronic Components; Lifetime @ Temp.: 1000 Hrs @ 105°C; Polarization: Polar; Ripple Current @ High Frequency: 66.3mA @ 10kHz; Ripple Current @ Low Frequency: 39mA @ 120Hz; Surface Mount Land Size: 0.209" L x 0.209" W (5.30mm x 5.30mm); Applications: Automotive; Capacitance: 22µF; ComponentLink1Description: Datasheet; ComponentLink1URL: https://industrial.panasonic.com/cdbs/www-data/pdf/RDE0000/ABA0000C1151.pdf; ComponentLink2Description: DigiKey Link; ComponentLink2URL: http://digikey.com/product-detail/en/panasonic-electronic-components/EEE-HA1C220R/PCE4181CT-ND/814254; Device Package: Radial, Can - SMD; Height - Seated (Max): 0.213" (5.40mm); LastUpdated: 9/2/2020 1:25:23 AM; Lifecycle Status: Active; Minimum Order: 1; Mounting Type: Surface Mount; Operating Temperature: -40°C ~ 105°C; Package / Case: Radial, Can - SMD; Packaging: TapeAndReel; PartId: 7939; Part Status: Active; Price: 0.08; Ratings: AEC-Q200; Series: HA; Size / Dimension: 0.197" Dia (5.00mm); Supplier 1: DigiKey; Supplier Part Number 1: PCE4181CT-ND; Tolerance: ±20%; Value: 22µF; Voltage - Rated: 16V
footprint CAP ALSMD 5.3MM H5.4MM
pins: 1, 2

## EEE-HA1C220WR
designator C?, comment 22µF
CAP ALUM 22UF 20% 16V SMD; Part Number: EEE-HA1C220WR; Manufacturer: Panasonic Electronic Components; Lifetime @ Temp.: 1000 Hrs @ 105°C; Polarization: Polar; Ripple Current @ High Frequency: 47.6mA @ 10kHz; Ripple Current @ Low Frequency: 28mA @ 120Hz; Surface Mount Land Size: 0.169" L x 0.169" W (4.30mm x 4.30mm); Applications: Automotive; Capacitance: 22µF; ComponentLink1Description: Datasheet; ComponentLink1URL: https://industrial.panasonic.com/cdbs/www-data/pdf/RDE0000/ABA0000C1151.pdf; ComponentLink2Description: DigiKey Link; ComponentLink2URL: http://digikey.com/product-detail/en/panasonic-electronic-components/EEE-HA1C220WR/PCE4182CT-ND/814255; Device Package: Radial, Can - SMD; Height - Seated (Max): 0.213" (5.40mm); LastUpdated: 9/2/2020 1:23:44 AM; Lifecycle Status: Active; Minimum Order: 1; Mounting Type: Surface Mount; Operating Temperature: -40°C ~ 105°C; Package / Case: Radial, Can - SMD; Packaging: TapeAndReel; PartId: 7118; Part Status: Active; Price: 0.08; Ratings: AEC-Q200; Series: HA; Size / Dimension: 0.157" Dia (4.00mm); Supplier 1: DigiKey; Supplier Part Number 1: PCE4182CT-ND; Tolerance: ±20%; Value: 22µF; Voltage - Rated: 16V
footprint CAP ALSMD POLY 4.3MM H5.5MM
pins: 1, 2

## EEE-HA1C221XP
designator C?, comment 220µF
CAP ALUM 220UF 20% 16V SMD; Part Number: EEE-HA1C221XP; Manufacturer: Panasonic Electronic Components; Lifetime @ Temp.: 1000 Hrs @ 105°C; Polarization: Polar; Ripple Current @ High Frequency: 178.5mA @ 10kHz; Ripple Current @ Low Frequency: 105mA @ 120Hz; Surface Mount Land Size: 0.260" L x 0.260" W (6.60mm x 6.60mm); Applications: Automotive; Capacitance: 220µF; ComponentLink1Description: Datasheet; ComponentLink1URL: https://industrial.panasonic.com/cdbs/www-data/pdf/RDE0000/ABA0000C1151.pdf; ComponentLink2Description: DigiKey Link; ComponentLink2URL: http://digikey.com/product-detail/en/panasonic-electronic-components/EEE-HA1C221XP/PCE4185CT-ND/814258; Device Package: Radial, Can - SMD; Height - Seated (Max): 0.303" (7.70mm); LastUpdated: 9/2/2020 1:25:34 AM; Lifecycle Status: Active; Minimum Order: 1; Mounting Type: Surface Mount; Operating Temperature: -40°C ~ 105°C; Package / Case: Radial, Can - SMD; Packaging: TapeAndReel; PartId: 8312; Part Status: Active; Price: 0.12; Ratings: AEC-Q200; Series: HA; Size / Dimension: 0.248" Dia (6.30mm); Supplier 1: DigiKey; Supplier Part Number 1: PCE4185CT-ND; Tolerance: ±20%; Value: 220µF; Voltage - Rated: 16V
footprint CAP ALSMD 6.6MM H7.7MM
pins: 1, 2

## EEE-HA1C330WR
designator C?, comment 33µF
CAP ALUM 33UF 20% 16V SMD; Part Number: EEE-HA1C330WR; Manufacturer: Panasonic Electronic Components; Lifetime @ Temp.: 1000 Hrs @ 105°C; Polarization: Polar; Ripple Current @ High Frequency: 59.5mA @ 10kHz; Ripple Current @ Low Frequency: 35mA @ 120Hz; Surface Mount Land Size: 0.209" L x 0.209" W (5.30mm x 5.30mm); Applications: Automotive; Capacitance: 33µF; ComponentLink1Description: Datasheet; ComponentLink1URL: https://industrial.panasonic.com/cdbs/www-data/pdf/RDE0000/ABA0000C1151.pdf; ComponentLink2Description: DigiKey Link; ComponentLink2URL: http://digikey.com/product-detail/en/panasonic-electronic-components/EEE-HA1C330WR/PCE4186CT-ND/814259; Device Package: Radial, Can - SMD; Height - Seated (Max): 0.213" (5.40mm); LastUpdated: 9/2/2020 1:25:23 AM; Lifecycle Status: Active; Minimum Order: 1; Mounting Type: Surface Mount; Operating Temperature: -40°C ~ 105°C; Package / Case: Radial, Can - SMD; Packaging: TapeAndReel; PartId: 7951; Part Status: Active; Price: 0.08; Ratings: AEC-Q200; Series: HA; Size / Dimension: 0.197" Dia (5.00mm); Supplier 1: DigiKey; Supplier Part Number 1: PCE4186CT-ND; Tolerance: ±20%; Value: 33µF; Voltage - Rated: 16V
footprint CAP ALSMD 5.3MM H5.4MM
pins: 1, 2

## EEE-HA1C470AP
designator C?, comment 47µF
CAP ALUM 47UF 20% 16V SMD; Part Number: EEE-HA1C470AP; Manufacturer: Panasonic Electronic Components; Lifetime @ Temp.: 1000 Hrs @ 105°C; Polarization: Polar; Ripple Current @ High Frequency: 119mA @ 10kHz; Ripple Current @ Low Frequency: 70mA @ 120Hz; Surface Mount Land Size: 0.260" L x 0.260" W (6.60mm x 6.60mm); Applications: Automotive; Capacitance: 47µF; ComponentLink1Description: Datasheet; ComponentLink1URL: https://industrial.panasonic.com/cdbs/www-data/pdf/RDE0000/ABA0000C1148.pdf; ComponentLink2Description: DigiKey Link; ComponentLink2URL: http://digikey.com/product-detail/en/panasonic-electronic-components/EEE-HA1C470AP/PCE4658CT-ND/1718081; Device Package: Radial, Can - SMD; Height - Seated (Max): 0.213" (5.40mm); LastUpdated: 9/2/2020 1:18:33 AM; Lifecycle Status: Active; Minimum Order: 1; Mounting Type: Surface Mount; Operating Temperature: -40°C ~ 105°C; Package / Case: Radial, Can - SMD; Packaging: TapeAndReel; PartId: 8760; Part Status: Active; Price: 0.10; Ratings: AEC-Q200; Series: HA; Size / Dimension: 0.248" Dia (6.30mm); Supplier 1: DigiKey; Supplier Part Number 1: PCE4658CT-ND; Tolerance: ±20%; Value: 47µF; Voltage - Rated: 16V
footprint CAP ALSMD 6.6MM H5.4MM
pins: 1, 2

## EEE-HA1C470P
designator C?, comment 47µF
CAP ALUM 47UF 20% 16V SMD; Part Number: EEE-HA1C470P; Manufacturer: Panasonic Electronic Components; Lifetime @ Temp.: 1000 Hrs @ 105°C; Polarization: Polar; Ripple Current @ High Frequency: 119mA @ 10kHz; Ripple Current @ Low Frequency: 70mA @ 120Hz; Surface Mount Land Size: 0.260" L x 0.260" W (6.60mm x 6.60mm); Applications: Automotive; Capacitance: 47µF; ComponentLink1Description: Datasheet; ComponentLink1URL: https://industrial.panasonic.com/cdbs/www-data/pdf/RDE0000/ABA0000C1151.pdf; ComponentLink2Description: DigiKey Link; ComponentLink2URL: http://digikey.com/product-detail/en/panasonic-electronic-components/EEE-HA1C470P/PCE4189CT-ND/814262; Device Package: Radial, Can - SMD; Height - Seated (Max): 0.213" (5.40mm); LastUpdated: 9/2/2020 1:18:33 AM; Lifecycle Status: Active; Minimum Order: 1; Mounting Type: Surface Mount; Operating Temperature: -40°C ~ 105°C; Package / Case: Radial, Can - SMD; Packaging: TapeAndReel; PartId: 8737; Part Status: Active; Price: 0.08; Ratings: AEC-Q200; Series: HA; Size / Dimension: 0.248" Dia (6.30mm); Supplier 1: DigiKey; Supplier Part Number 1: PCE4189CT-ND; Tolerance: ±20%; Value: 47µF; Voltage - Rated: 16V
footprint CAP ALSMD 6.6MM H5.4MM
pins: 1, 2

## EEE-HA1C470WR
designator C?, comment 47µF
CAP ALUM 47UF 20% 16V SMD; Part Number: EEE-HA1C470WR; Manufacturer: Panasonic Electronic Components; Lifetime @ Temp.: 1000 Hrs @ 105°C; Polarization: Polar; Ripple Current @ High Frequency: 66.3mA @ 10kHz; Ripple Current @ Low Frequency: 39mA @ 120Hz; Surface Mount Land Size: 0.209" L x 0.209" W (5.30mm x 5.30mm); Applications: Automotive; Capacitance: 47µF; ComponentLink1Description: Datasheet; ComponentLink1URL: https://industrial.panasonic.com/cdbs/www-data/pdf/RDE0000/ABA0000C1151.pdf; ComponentLink2Description: DigiKey Link; ComponentLink2URL: http://digikey.com/product-detail/en/panasonic-electronic-components/EEE-HA1C470WR/PCE4190CT-ND/814263; Device Package: Radial, Can - SMD; Height - Seated (Max): 0.213" (5.40mm); LastUpdated: 9/2/2020 1:25:23 AM; Lifecycle Status: Active; Minimum Order: 1; Mounting Type: Surface Mount; Operating Temperature: -40°C ~ 105°C; Package / Case: Radial, Can - SMD; Packaging: TapeAndReel; PartId: 7970; Part Status: Active; Price: 0.08; Ratings: AEC-Q200; Series: HA; Size / Dimension: 0.197" Dia (5.00mm); Supplier 1: DigiKey; Supplier Part Number 1: PCE4190CT-ND; Tolerance: ±20%; Value: 47µF; Voltage - Rated: 16V
footprint CAP ALSMD 5.3MM H5.4MM
pins: 1, 2

## EEE-HA1E4R7AR
designator C?, comment 4.7µF
CAP ALUM 4.7UF 20% 25V SMD; Part Number: EEE-HA1E4R7AR; Manufacturer: Panasonic Electronic Components; Lifetime @ Temp.: 1000 Hrs @ 105°C; Polarization: Polar; Ripple Current @ High Frequency: 37.4mA @ 10kHz; Ripple Current @ Low Frequency: 22mA @ 120Hz; Surface Mount Land Size: 0.169" L x 0.169" W (4.30mm x 4.30mm); Applications: Automotive; Capacitance: 4.7µF; ComponentLink1Description: Datasheet; ComponentLink1URL: https://industrial.panasonic.com/cdbs/www-data/pdf/RDE0000/ABA0000C1148.pdf; ComponentLink2Description: DigiKey Link; ComponentLink2URL: http://digikey.com/product-detail/en/panasonic-electronic-components/EEE-HA1E4R7AR/PCE4667CT-ND/1718090; Device Package: Radial, Can - SMD; Height - Seated (Max): 0.213" (5.40mm); LastUpdated: 9/2/2020 1:23:46 AM; Lifecycle Status: Active; Minimum Order: 1; Mounting Type: Surface Mount; Operating Temperature: -40°C ~ 105°C; Package / Case: Radial, Can - SMD; Packaging: TapeAndReel; PartId: 7055; Part Status: Active; Price: 0.08; Ratings: AEC-Q200; Series: HA; Size / Dimension: 0.157" Dia (4.00mm); Supplier 1: DigiKey; Supplier Part Number 1: PCE4667CT-ND; Tolerance: ±20%; Value: 4.7µF; Voltage - Rated: 25V
footprint CAP ALSMD POLY 4.3MM H5.5MM
pins: 1, 2

## EEE-HA1E4R7R
designator C?, comment 4.7µF
CAP ALUM 4.7UF 20% 25V SMD; Part Number: EEE-HA1E4R7R; Manufacturer: Panasonic Electronic Components; Lifetime @ Temp.: 1000 Hrs @ 105°C; Polarization: Polar; Ripple Current @ High Frequency: 37.4mA @ 10kHz; Ripple Current @ Low Frequency: 22mA @ 120Hz; Surface Mount Land Size: 0.169" L x 0.169" W (4.30mm x 4.30mm); Applications: Automotive; Capacitance: 4.7µF; ComponentLink1Description: Datasheet; ComponentLink1URL: https://industrial.panasonic.com/cdbs/www-data/pdf/RDE0000/ABA0000C1151.pdf; ComponentLink2Description: DigiKey Link; ComponentLink2URL: http://digikey.com/product-detail/en/panasonic-electronic-components/EEE-HA1E4R7R/PCE4208CT-ND/814281; Device Package: Radial, Can - SMD; Height - Seated (Max): 0.213" (5.40mm); LastUpdated: 9/2/2020 1:23:44 AM; Lifecycle Status: Active; Minimum Order: 1; Mounting Type: Surface Mount; Operating Temperature: -40°C ~ 105°C; Package / Case: Radial, Can - SMD; Packaging: TapeAndReel; PartId: 7101; Part Status: Active; Price: 0.07; Ratings: AEC-Q200; Series: HA; Size / Dimension: 0.157" Dia (4.00mm); Supplier 1: DigiKey; Supplier Part Number 1: PCE4208CT-ND; Tolerance: ±20%; Value: 4.7µF; Voltage - Rated: 25V
footprint CAP ALSMD POLY 4.3MM H5.5MM
pins: 1, 2

## EEE-HA1E100AR
designator C?, comment 10µF
CAP ALUM 10UF 20% 25V SMD; Part Number: EEE-HA1E100AR; Manufacturer: Panasonic Electronic Components; Lifetime @ Temp.: 1000 Hrs @ 105°C; Polarization: Polar; Ripple Current @ High Frequency: 47.6mA @ 10kHz; Ripple Current @ Low Frequency: 28mA @ 120Hz; Surface Mount Land Size: 0.209" L x 0.209" W (5.30mm x 5.30mm); Applications: Automotive; Capacitance: 10µF; ComponentLink1Description: Datasheet; ComponentLink1URL: https://industrial.panasonic.com/cdbs/www-data/pdf/RDE0000/ABA0000C1148.pdf; ComponentLink2Description: DigiKey Link; ComponentLink2URL: http://digikey.com/product-detail/en/panasonic-electronic-components/EEE-HA1E100AR/PCE4660CT-ND/1718083; Device Package: Radial, Can - SMD; Height - Seated (Max): 0.213" (5.40mm); LastUpdated: 9/2/2020 1:25:23 AM; Lifecycle Status: Active; Minimum Order: 1; Mounting Type: Surface Mount; Operating Temperature: -40°C ~ 105°C; Package / Case: Radial, Can - SMD; Packaging: TapeAndReel; PartId: 7954; Part Status: Active; Price: 0.09; Ratings: AEC-Q200; Series: HA; Size / Dimension: 0.197" Dia (5.00mm); Supplier 1: DigiKey; Supplier Part Number 1: PCE4660CT-ND; Tolerance: ±20%; Value: 10µF; Voltage - Rated: 25V
footprint CAP ALSMD 5.3MM H5.4MM
pins: 1, 2

## EEE-HA1E100R
designator C?, comment 10µF
CAP ALUM 10UF 20% 25V SMD; Part Number: EEE-HA1E100R; Manufacturer: Panasonic Electronic Components; Lifetime @ Temp.: 1000 Hrs @ 105°C; Polarization: Polar; Ripple Current @ High Frequency: 47.6mA @ 10kHz; Ripple Current @ Low Frequency: 28mA @ 120Hz; Surface Mount Land Size: 0.209" L x 0.209" W (5.30mm x 5.30mm); Applications: Automotive; Capacitance: 10µF; ComponentLink1Description: Datasheet; ComponentLink1URL: https://industrial.panasonic.com/cdbs/www-data/pdf/RDE0000/ABA0000C1151.pdf; ComponentLink2Description: DigiKey Link; ComponentLink2URL: http://digikey.com/product-detail/en/panasonic-electronic-components/EEE-HA1E100R/PCE4193CT-ND/814266; Device Package: Radial, Can - SMD; Height - Seated (Max): 0.213" (5.40mm); LastUpdated: 9/2/2020 1:25:23 AM; Lifecycle Status: Active; Minimum Order: 1; Mounting Type: Surface Mount; Operating Temperature: -40°C ~ 105°C; Package / Case: Radial, Can - SMD; Packaging: TapeAndReel; PartId: 7935; Part Status: Active; Price: 0.07; Ratings: AEC-Q200; Series: HA; Size / Dimension: 0.197" Dia (5.00mm); Supplier 1: DigiKey; Supplier Part Number 1: PCE4193CT-ND; Tolerance: ±20%; Value: 10µF; Voltage - Rated: 25V
footprint CAP ALSMD 5.3MM H5.4MM
pins: 1, 2

## EEE-HA1E100WR
designator C?, comment 10µF
CAP ALUM 10UF 20% 25V SMD; Part Number: EEE-HA1E100WR; Manufacturer: Panasonic Electronic Components; Lifetime @ Temp.: 1000 Hrs @ 105°C; Polarization: Polar; Ripple Current @ High Frequency: 37.4mA @ 10kHz; Ripple Current @ Low Frequency: 22mA @ 120Hz; Surface Mount Land Size: 0.169" L x 0.169" W (4.30mm x 4.30mm); Applications: Automotive; Capacitance: 10µF; ComponentLink1Description: Datasheet; ComponentLink1URL: https://industrial.panasonic.com/cdbs/www-data/pdf/RDE0000/ABA0000C1151.pdf; ComponentLink2Description: DigiKey Link; ComponentLink2URL: http://digikey.com/product-detail/en/panasonic-electronic-components/EEE-HA1E100WR/PCE4194CT-ND/814267; Device Package: Radial, Can - SMD; Height - Seated (Max): 0.213" (5.40mm); LastUpdated: 9/2/2020 1:23:44 AM; Lifecycle Status: Active; Minimum Order: 1; Mounting Type: Surface Mount; Operating Temperature: -40°C ~ 105°C; Package / Case: Radial, Can - SMD; Packaging: TapeAndReel; PartId: 7120; Part Status: Active; Price: 0.08; Ratings: AEC-Q200; Series: HA; Size / Dimension: 0.157" Dia (4.00mm); Supplier 1: DigiKey; Supplier Part Number 1: PCE4194CT-ND; Tolerance: ±20%; Value: 10µF; Voltage - Rated: 25V
footprint CAP ALSMD POLY 4.3MM H5.5MM
pins: 1, 2

## EEE-HA1E101XP
designator C?, comment 100µF
CAP ALUM 100UF 20% 25V SMD; Part Number: EEE-HA1E101XP; Manufacturer: Panasonic Electronic Components; Lifetime @ Temp.: 1000 Hrs @ 105°C; Polarization: Polar; Ripple Current @ High Frequency: 154.7mA @ 10kHz; Ripple Current @ Low Frequency: 91mA @ 120Hz; Surface Mount Land Size: 0.260" L x 0.260" W (6.60mm x 6.60mm); Applications: Automotive; Capacitance: 100µF; ComponentLink1Description: Datasheet; ComponentLink1URL: https://industrial.panasonic.com/cdbs/www-data/pdf/RDE0000/ABA0000C1151.pdf; ComponentLink2Description: DigiKey Link; ComponentLink2URL: http://digikey.com/product-detail/en/panasonic-electronic-components/EEE-HA1E101XP/P19729CT-ND/6109627; Device Package: Radial, Can - SMD; Height - Seated (Max): 0.315" (8.00mm); LastUpdated: 9/2/2020 1:25:38 AM; Lifecycle Status: Active; Minimum Order: 1; Mounting Type: Surface Mount; Operating Temperature: -40°C ~ 105°C; Package / Case: Radial, Can - SMD; Packaging: TapeAndReel; PartId: 8443; Part Status: Active; Price: 0.13; Ratings: AEC-Q200; Series: HA; Size / Dimension: 0.248" Dia (6.30mm); Supplier 1: DigiKey; Supplier Part Number 1: P19729CT-ND; Tolerance: ±20%; Value: 100µF; Voltage - Rated: 25V
footprint CAP ALSMD 6.6MM H8.0MM
pins: 1, 2

## EEE-HA1E220AP
designator C?, comment 22µF
CAP ALUM 22UF 20% 25V SMD; Part Number: EEE-HA1E220AP; Manufacturer: Panasonic Electronic Components; Lifetime @ Temp.: 1000 Hrs @ 105°C; Polarization: Polar; Ripple Current @ High Frequency: 93.5mA @ 10kHz; Ripple Current @ Low Frequency: 55mA @ 120Hz; Surface Mount Land Size: 0.260" L x 0.260" W (6.60mm x 6.60mm); Applications: Automotive; Capacitance: 22µF; ComponentLink1Description: Datasheet; ComponentLink1URL: https://industrial.panasonic.com/cdbs/www-data/pdf/RDE0000/ABA0000C1148.pdf; ComponentLink2Description: DigiKey Link; ComponentLink2URL: http://digikey.com/product-detail/en/panasonic-electronic-components/EEE-HA1E220AP/PCE4662CT-ND/1718085; Device Package: Radial, Can - SMD; Height - Seated (Max): 0.213" (5.40mm); LastUpdated: 9/2/2020 1:18:33 AM; Lifecycle Status: Active; Minimum Order: 1; Mounting Type: Surface Mount; Operating Temperature: -40°C ~ 105°C; Package / Case: Radial, Can - SMD; Packaging: TapeAndReel; PartId: 8789; Part Status: Active; Price: 0.10; Ratings: AEC-Q200; Series: HA; Size / Dimension: 0.248" Dia (6.30mm); Supplier 1: DigiKey; Supplier Part Number 1: PCE4662CT-ND; Tolerance: ±20%; Value: 22µF; Voltage - Rated: 25V
footprint CAP ALSMD 6.6MM H5.4MM
pins: 1, 2

## EEE-HA1E220P
designator C?, comment 22µF
CAP ALUM 22UF 20% 25V SMD; Part Number: EEE-HA1E220P; Manufacturer: Panasonic Electronic Components; Lifetime @ Temp.: 1000 Hrs @ 105°C; Polarization: Polar; Ripple Current @ High Frequency: 93.5mA @ 10kHz; Ripple Current @ Low Frequency: 55mA @ 120Hz; Surface Mount Land Size: 0.260" L x 0.260" W (6.60mm x 6.60mm); Applications: Automotive; Capacitance: 22µF; ComponentLink1Description: Datasheet; ComponentLink1URL: https://industrial.panasonic.com/cdbs/www-data/pdf/RDE0000/ABA0000C1151.pdf; ComponentLink2Description: DigiKey Link; ComponentLink2URL: http://digikey.com/product-detail/en/panasonic-electronic-components/EEE-HA1E220P/PCE4197CT-ND/814270; Device Package: Radial, Can - SMD; Height - Seated (Max): 0.213" (5.40mm); LastUpdated: 9/2/2020 1:18:33 AM; Lifecycle Status: Active; Minimum Order: 1; Mounting Type: Surface Mount; Operating Temperature: -40°C ~ 105°C; Package / Case: Radial, Can - SMD; Packaging: TapeAndReel; PartId: 8762; Part Status: Active; Price: 0.10; Ratings: AEC-Q200; Series: HA; Size / Dimension: 0.248" Dia (6.30mm); Supplier 1: DigiKey; Supplier Part Number 1: PCE4197CT-ND; Tolerance: ±20%; Value: 22µF; Voltage - Rated: 25V
footprint CAP ALSMD 6.6MM H5.4MM
pins: 1, 2

## EEE-HA1E220WR
designator C?, comment 22µF
CAP ALUM 22UF 20% 25V SMD; Part Number: EEE-HA1E220WR; Manufacturer: Panasonic Electronic Components; Lifetime @ Temp.: 1000 Hrs @ 105°C; Polarization: Polar; Ripple Current @ High Frequency: 59.5mA @ 10kHz; Ripple Current @ Low Frequency: 35mA @ 120Hz; Surface Mount Land Size: 0.209" L x 0.209" W (5.30mm x 5.30mm); Applications: Automotive; Capacitance: 22µF; ComponentLink1Description: Datasheet; ComponentLink1URL: https://industrial.panasonic.com/cdbs/www-data/pdf/RDE0000/ABA0000C1151.pdf; ComponentLink2Description: DigiKey Link; ComponentLink2URL: http://digikey.com/product-detail/en/panasonic-electronic-components/EEE-HA1E220WR/PCE4198CT-ND/814271; Device Package: Radial, Can - SMD; Height - Seated (Max): 0.213" (5.40mm); LastUpdated: 9/2/2020 1:25:24 AM; Lifecycle Status: Active; Minimum Order: 1; Mounting Type: Surface Mount; Operating Temperature: -40°C ~ 105°C; Package / Case: Radial, Can - SMD; Packaging: TapeAndReel; PartId: 7849; Part Status: Active; Price: 0.08; Ratings: AEC-Q200; Series: HA; Size / Dimension: 0.197" Dia (5.00mm); Supplier 1: DigiKey; Supplier Part Number 1: PCE4198CT-ND; Tolerance: ±20%; Value: 22µF; Voltage - Rated: 25V
footprint CAP ALSMD 5.3MM H5.4MM
pins: 1, 2

## EEE-HA1E330P
designator C?, comment 33µF
CAP ALUM 33UF 20% 25V SMD; Part Number: EEE-HA1E330P; Manufacturer: Panasonic Electronic Components; Lifetime @ Temp.: 1000 Hrs @ 105°C; Polarization: Polar; Ripple Current @ High Frequency: 110.5mA @ 10kHz; Ripple Current @ Low Frequency: 65mA @ 120Hz; Surface Mount Land Size: 0.260" L x 0.260" W (6.60mm x 6.60mm); Applications: Automotive; Capacitance: 33µF; ComponentLink1Description: Datasheet; ComponentLink1URL: https://industrial.panasonic.com/cdbs/www-data/pdf/RDE0000/ABA0000C1151.pdf; ComponentLink2Description: DigiKey Link; ComponentLink2URL: http://digikey.com/product-detail/en/panasonic-electronic-components/EEE-HA1E330P/PCE4201CT-ND/814274; Device Package: Radial, Can - SMD; Height - Seated (Max): 0.213" (5.40mm); LastUpdated: 9/2/2020 1:18:33 AM; Lifecycle Status: Active; Minimum Order: 1; Mounting Type: Surface Mount; Operating Temperature: -40°C ~ 105°C; Package / Case: Radial, Can - SMD; Packaging: TapeAndReel; PartId: 8761; Part Status: Active; Price: 0.10; Ratings: AEC-Q200; Series: HA; Size / Dimension: 0.248" Dia (6.30mm); Supplier 1: DigiKey; Supplier Part Number 1: PCE4201CT-ND; Tolerance: ±20%; Value: 33µF; Voltage - Rated: 25V
footprint CAP ALSMD 6.6MM H5.4MM
pins: 1, 2